# Altium schematic symbol library MAX14789EGSA+.SchLib: 1 symbol
Pins are listed as number, name and electrical type; pins without a type are passive.

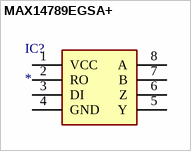
[diagram p0: symbol MAX14789EGSA+]

## MAX14789EGSA+
designator IC?
Integrated Circuit; Manufacturer_Name: Maxim Integrated; Manufacturer_Part_Number: MAX14789EGSA+; Description: MAXIM INTEGRATED PRODUCTS - MAX14789EGSA+ - RS-485 TRANSCEIVER; Datasheet Link: https://datasheets.maximintegrated.com/en/ds/MAX14784E-MAX14789E.pdf; Height: 1.75mm; Mouser Part Number: 700-MAX14789EGSA+; Mouser Price/Stock: https://www.mouser.com/Search/Refine.aspx?Keyword=700-MAX14789EGSA%2B
footprint SOIC127P600X175-8N
pins: 1 VCC, 2 RO, 3 DI, 4 GND, 5 Y, 6 Z, 7 B, 8 A